# EAGLE library part 74HC688D (library NXP_By_element14_Batch_1)
8-bit magnitude comparator
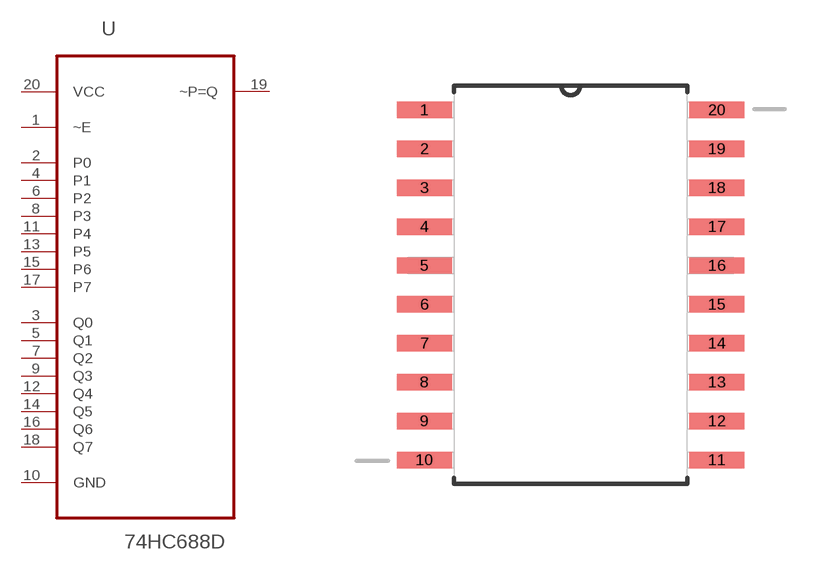
[diagram p151: symbol with the pads of SOIC127P1032X265-20N; footprint SOIC127P1032X265-20N]

Designator prefix U

## 74HC688D (MPN: 74HC688D; OC_FARNELL: 1085236; OC_NEWARK: 99K0600; P1I: o; PACKAGE: SOIC-20; SUPPLIER: NXP)  [SOIC127P1032X265-20N]
1  ~E  in
2  P0  in
3  Q0  in
4  P1  in
5  Q1  in
6  P2  in
7  Q2  in
8  P3  in
9  Q3  in
10  GND  pas
11  P4  in
12  Q4  in
13  P5  in
14  Q5  in
15  P6  in
16  Q6  in
17  P7  in
18  Q7  in
19  ~P=Q  out
20  VCC  pwr

## Footprint SOIC127P1032X265-20N (pad centres in mm)
smd 1.803 x 0.533: 1 -4.775,5.715; 2 -4.775,4.445; 3 -4.775,3.175; 4 -4.775,1.905; 5 -4.775,0.635; 6 -4.775,-0.635; 7 -4.775,-1.905; 8 -4.775,-3.175; 9 -4.775,-4.445; 10 -4.775,-5.715; 11 4.775,-5.715; 12 4.775,-4.445; 13 4.775,-3.175; 14 4.775,-1.905; 15 4.775,-0.635; 16 4.775,0.635; 17 4.775,1.905; 18 4.775,3.175; 19 4.775,4.445; 20 4.775,5.715